# EAGLE library part TLV320AIC3204 (library TLV320AIC32XX)
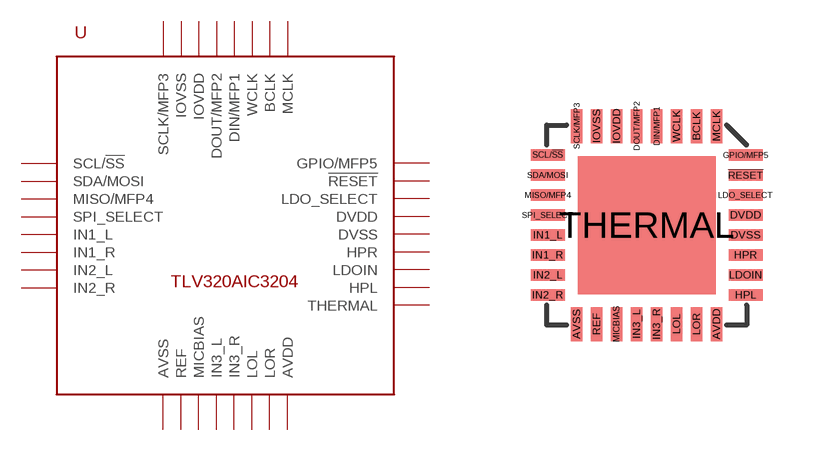
[diagram p1: symbol with the pads of TLV320AIC3204; footprint TLV320AIC3204]

Designator prefix U

## TLV320AIC3204  [TLV320AIC3204]
!RESET  !RESET
AVDD  AVDD
AVSS  AVSS
BCLK  BCLK
DIN/MFP1  DIN/MFP1
DOUT/MFP2  DOUT/MFP2
DVDD  DVDD
DVSS  DVSS
GPIO/MFP5  GPIO/MFP5
HPL  HPL
HPR  HPR
IN1_L  IN1_L
IN1_R  IN1_R
IN2_L  IN2_L
IN2_R  IN2_R
IN3_L  IN3_L
IN3_R  IN3_R
IOVDD  IOVDD
IOVSS  IOVSS
LDO_SELECT  LDO_SELECT
LDOIN  LDOIN
LOL  LOL
LOR  LOR
MCLK  MCLK
MICBIAS  MICBIAS
MISO/MFP4  MISO/MFP4
REF  REF
SCL/!SS  SCL/!SS
SCLK/MFP3  SCLK/MFP3
SDA/MOSI  SDA/MOSI
SPI_SELECT  SPI_SELECT
THERMAL  THERMAL
WCLK  WCLK

## Footprint TLV320AIC3204 (pad centres in mm)
smd 0.85 x 0.28: !RESET 2.475,1.25; DVDD 2.475,0.25; DVSS 2.475,-0.25; GPIO/MFP5 2.475,1.75; HPL 2.475,-1.75; HPR 2.475,-0.75; IN1_L -2.475,-0.25; IN1_R -2.475,-0.75; IN2_L -2.475,-1.25; IN2_R -2.475,-1.75; LDO_SELECT 2.475,0.75; LDOIN 2.475,-1.25; MISO/MFP4 -2.475,0.75; SCL/!SS -2.475,1.75; SDA/MOSI -2.475,1.25; SPI_SELECT -2.475,0.25
smd 0.28 x 0.85: AVDD 1.75,-2.475; AVSS -1.75,-2.475; BCLK 1.25,2.475; DIN/MFP1 0.25,2.475; DOUT/MFP2 -0.25,2.475; IN3_L -0.25,-2.475; IN3_R 0.25,-2.475; IOVDD -0.75,2.475; IOVSS -1.25,2.475; LOL 0.75,-2.475; LOR 1.25,-2.475; MCLK 1.75,2.475; MICBIAS -0.75,-2.475; REF -1.25,-2.475; SCLK/MFP3 -1.75,2.475; WCLK 0.75,2.475
smd 3.45 x 3.45: THERMAL 0,0